# EAGLE library part 146134-32 (library con-tyco-mod-II)
HEADER
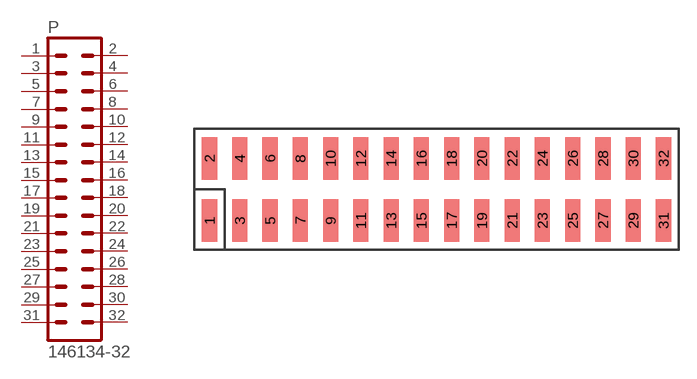
[diagram p13: symbol with the pads of 146134-32; footprint 146134-32]

Designator prefix P

## 146134-32  [146134-32]
1  1  pas
2  2  pas
3  3  pas
4  4  pas
5  5  pas
6  6  pas
7  7  pas
8  8  pas
9  9  pas
10  10  pas
11  11  pas
12  12  pas
13  13  pas
14  14  pas
15  15  pas
16  16  pas
17  17  pas
18  18  pas
19  19  pas
20  20  pas
21  21  pas
22  22  pas
23  23  pas
24  24  pas
25  25  pas
26  26  pas
27  27  pas
28  28  pas
29  29  pas
30  30  pas
31  31  pas
32  32  pas

## Footprint 146134-32 (pad centres in mm)
HEADER
smd 1.27 x 3.556: 1 -19.05,-2.603; 2 -19.05,2.603; 3 -16.51,-2.603; 4 -16.51,2.603; 5 -13.97,-2.603; 6 -13.97,2.603; 7 -11.43,-2.603; 8 -11.43,2.603; 9 -8.89,-2.603; 10 -8.89,2.603; 11 -6.35,-2.603; 12 -6.35,2.603; 13 -3.81,-2.603; 14 -3.81,2.603; 15 -1.27,-2.603; 16 -1.27,2.603; 17 1.27,-2.603; 18 1.27,2.603; 19 3.81,-2.603; 20 3.81,2.603; 21 6.35,-2.603; 22 6.35,2.603; 23 8.89,-2.603; 24 8.89,2.603; 25 11.43,-2.603; 26 11.43,2.603; 27 13.97,-2.603; 28 13.97,2.603; 29 16.51,-2.603; 30 16.51,2.603; 31 19.05,-2.603; 32 19.05,2.603